# Altium footprint library Solar_cell_ver4.PcbLib: 9 footprints
Each footprint in its own frame and in the unit in brackets; x right, y up, seen from the top. Pads: shape width x height; smd on the part's side, far side on the other; paste and mask are expansions set on the pad; w line width, h text height; cw(c..) or ccw(c..) is an arc to the next point about the centre after c.
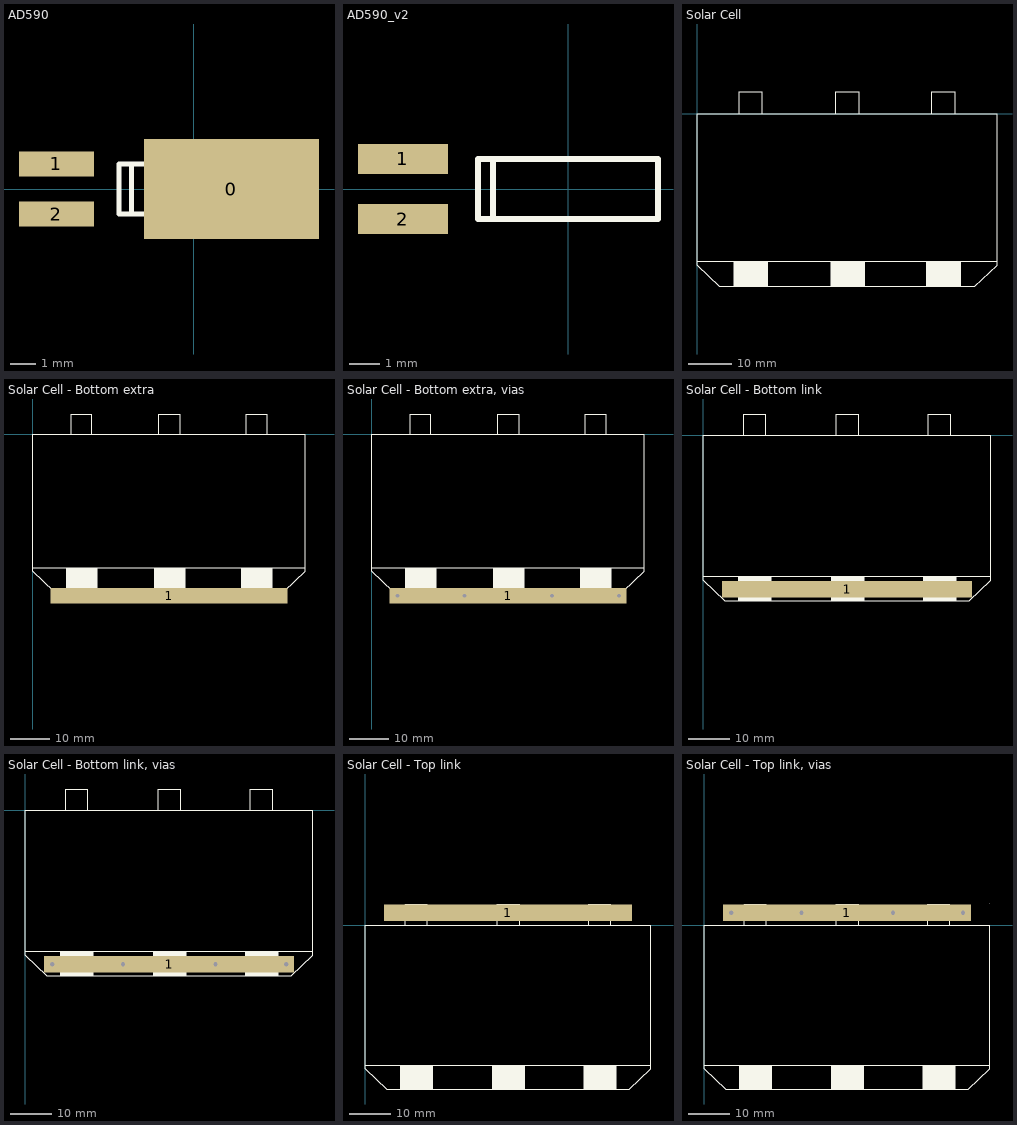
[diagram p0: the footprints below, top view; thin cyan lines are the x and y axes]

## AD590 [mm] "Temperature sensor IC"
pads (3):
  rect 7x4 smd: 0(1.5,0)
  rect 3x1 smd: 1(-5.5,1) 2(-5.5,-1)
Top Overlay:
  lines w0.2: -2.5,-1 -2.5,1 ; -3,-1 -3,1 3,1 3,-1 -3,-1

## AD590_v2 [mm]
pads (2):
  rect 3x1 smd: 1(-5.5,1) 2(-5.5,-1)
Top Overlay:
  lines w0.2: -2.5,-1 -2.5,1 ; -3,-1 -3,1 3,1 3,-1 -3,-1

## Solar Cell [mm]
Top Overlay:
  rectangle: 52.8,-39.7 60.8,-33.9
  rectangle: 30.7,-39.7 38.7,-33.9
  rectangle: 8.4,-39.7 16.4,-33.9
  lines w0.254: 0,-33.9 69.1,-33.9 ; 9.7,0 9.7,5.1 15,5.1 15,0 ; 32,0 32,5.1 37.4,5.1 37.4,0 ; 54.1,0 54.1,5.1 59.5,5.1 59.5,0 ; 0,-34.85 5.15,-39.7 63.95,-39.7 69.1,-34.85 69.1,-34.8 69.1,0 0,0 0,-34.8 0,-34.85

## Solar Cell - Bottom extra [mm]
pads (1):
  rect 60x4 smd: 1(34.55,-41)
Top Overlay:
  rectangle: 52.8,-39.7 60.8,-33.9
  rectangle: 30.7,-39.7 38.7,-33.9
  rectangle: 8.4,-39.7 16.4,-33.9
  lines w0.254: 0,-33.9 69.1,-33.9 ; 9.7,0 9.7,5.1 15,5.1 15,0 ; 32,0 32,5.1 37.4,5.1 37.4,0 ; 54.1,0 54.1,5.1 59.5,5.1 59.5,0 ; 0,-34.85 5.15,-39.7 63.95,-39.7 69.1,-34.85 69.1,-34.8 69.1,0 0,0 0,-34.8 0,-34.85

## Solar Cell - Bottom extra, vias [mm]
pads (1):
  rect 60x4 smd: 1(34.55,-41)
via 6.5,-41 diameter 3 hole 1
via 62.7,-41 diameter 3 hole 1
via 23.5,-41 diameter 3 hole 1
via 45.7,-41 diameter 3 hole 1
Top Overlay:
  rectangle: 52.8,-39.7 60.8,-33.9
  rectangle: 30.7,-39.7 38.7,-33.9
  rectangle: 8.4,-39.7 16.4,-33.9
  lines w0.254: 0,-33.9 69.1,-33.9 ; 9.7,0 9.7,5.1 15,5.1 15,0 ; 32,0 32,5.1 37.4,5.1 37.4,0 ; 54.1,0 54.1,5.1 59.5,5.1 59.5,0 ; 0,-34.85 5.15,-39.7 63.95,-39.7 69.1,-34.85 69.1,-34.8 69.1,0 0,0 0,-34.8 0,-34.85

## Solar Cell - Bottom link [mm]
pads (1):
  rect 60x4 smd: 1(34.55,-36.95)
Top Overlay:
  rectangle: 8.4,-39.7 16.4,-33.9
  rectangle: 30.7,-39.7 38.7,-33.9
  rectangle: 52.8,-39.7 60.8,-33.9
  lines w0.254: 0,-33.9 69.1,-33.9 ; 9.7,0 9.7,5.1 15,5.1 15,0 ; 32,0 32,5.1 37.4,5.1 37.4,0 ; 54.1,0 54.1,5.1 59.5,5.1 59.5,0 ; 0,-34.85 0,-34.8 0,0 69.1,0 69.1,-34.8 69.1,-34.85 63.95,-39.7 5.15,-39.7 0,-34.85

## Solar Cell - Bottom link, vias [mm]
pads (1):
  rect 60x4 smd: 1(34.55,-36.95)
via 45.7,-37 diameter 3 hole 1
via 23.5,-37 diameter 3 hole 1
via 6.5,-37 diameter 3 hole 1
via 62.7,-37 diameter 3 hole 1
Top Overlay:
  rectangle: 52.8,-39.7 60.8,-33.9
  rectangle: 30.7,-39.7 38.7,-33.9
  rectangle: 8.4,-39.7 16.4,-33.9
  lines w0.254: 0,-33.9 69.1,-33.9 ; 9.7,0 9.7,5.1 15,5.1 15,0 ; 32,0 32,5.1 37.4,5.1 37.4,0 ; 54.1,0 54.1,5.1 59.5,5.1 59.5,0 ; 0,-34.85 5.15,-39.7 63.95,-39.7 69.1,-34.85 69.1,-34.8 69.1,0 0,0 0,-34.8 0,-34.85

## Solar Cell - Top link [mm]
pads (1):
  rect 60x4 smd: 1(34.55,3)
Top Overlay:
  rectangle: 8.4,-39.7 16.4,-33.9
  rectangle: 30.7,-39.7 38.7,-33.9
  rectangle: 52.8,-39.7 60.8,-33.9
  lines w0.254: 0,-33.9 69.1,-33.9 ; 9.7,0 9.7,5 ; 9.7,5.1 15,5.1 15,0 ; 32,0 32,5.1 37.4,5.1 37.4,0 ; 54.1,0 54.1,5.1 59.5,5.1 59.5,0 ; 0,-34.85 0,-34.8 0,0 69.1,0 69.1,-34.8 69.1,-34.85 63.95,-39.7 5.15,-39.7 0,-34.85

## Solar Cell - Top link, vias [mm]
pads (1):
  rect 60x4 smd: 1(34.55,3)
via 62.7,3 diameter 3 hole 1
via 6.5,3 diameter 3 hole 1
via 23.5,3 diameter 3 hole 1
via 45.7,3 diameter 3 hole 1
Top Overlay:
  rectangle: 52.8,-39.7 60.8,-33.9
  rectangle: 30.7,-39.7 38.7,-33.9
  rectangle: 8.4,-39.7 16.4,-33.9
  lines w0.254: 0,-33.9 69.1,-33.9 ; 9.7,0 9.7,5 ; 9.7,5.1 15,5.1 15,0 ; 32,0 32,5.1 37.4,5.1 37.4,0 ; 54.1,0 54.1,5.1 59.5,5.1 59.5,0 ; 69.1,5.15 69.1,5.2 ; 0,-34.85 5.15,-39.7 63.95,-39.7 69.1,-34.85 69.1,-34.8 69.1,0 0,0 0,-34.8 0,-34.85